# Altium footprint library Battery_PSU.PcbLib: 33 footprints (part 1 of 3)
Each footprint in its own frame and in the unit in brackets; x right, y up, seen from the top. Pads: shape width x height; smd on the part's side, far side on the other; paste and mask are expansions set on the pad; w line width, h text height; cw(c..) or ccw(c..) is an arc to the next point about the centre after c.
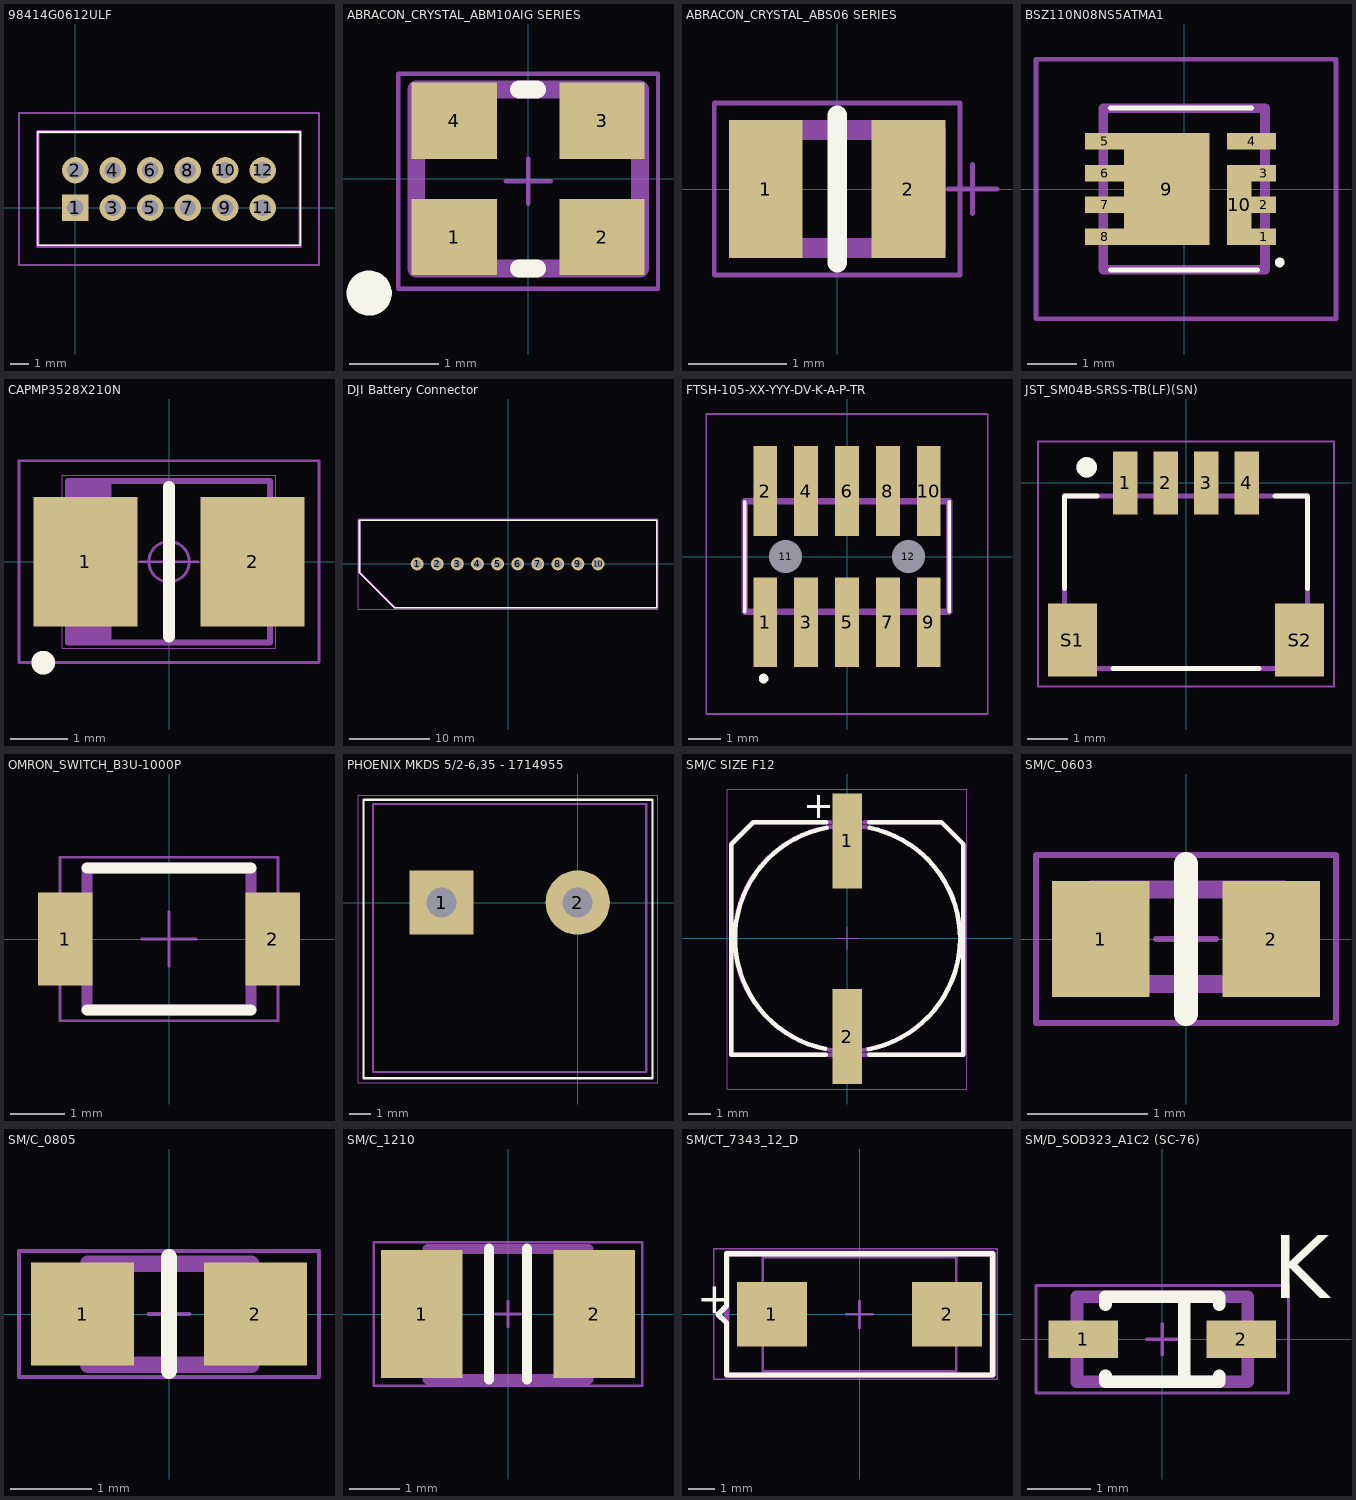
[diagram p0: the footprints below, top view; thin cyan lines are the x and y axes]

## 98414G0612ULF [mm]
pads (12):
  rect 1.4x1.4 hole 0.9: 1(0,0)
  round 1.4 hole 0.9: 2(0,2) 3(2,0) 4(2,2) 5(4,0) 6(4,2) 7(6,0) 8(6,2) 9(8,0) 10(8,2) 11(10,0) 12(10,2)
Top Overlay:
  lines w0.1: -2,-2 12,-2 12,4.05 -2,4.05 -2,-2
Mechanical 13:
  lines w0.2: -2,-2.05 12,-2.05 12,4.05 -2,4.05 -2,-2.05
Mechanical 15:
  lines w0.1: -3,-3.05 13,-3.05 13,5.05 -3,5.05 -3,-3.05
3D body "s98414-x06-12LF.stp": height 5.85, standoff -2.5, extent -2,-2.05 12,4.05

## ABRACON_CRYSTAL_ABM10AIG SERIES [mm] "32.768kHz SMD LOW PROFILE CRYSTAL Abracon Series ABM10AIG 2.5 x 2 x 0.55mm"
height 0.55
pads (4):
  rect 0.95x0.85 smd mask+0.102: 1(-0.825,-0.65) 2(0.825,-0.65) 3(0.825,0.65) 4(-0.825,0.65)
Top Overlay:
  circle w0.254: c-1.775,-1.275 r0.125
  lines w0.2: -0.1,-1 0.1,-1 ; -0.1,1 0.1,1
Mechanical 11:
  lines w0.2: -1.25,-1 -1.25,1 1.25,1 1.25,-1 -1.25,-1
  text ".designator" at -4.05,-0.5 h1
Mechanical 13:
  lines w0.2: -1.25,-1 1.25,-1 1.25,1 -1.25,1 -1.25,-1
Mechanical 15:
  lines w0.05: -0.25,-0.025 0.25,-0.025 ; 0,-0.275 0,0.225 ; -1.45,-1.225 1.45,-1.225 1.45,1.175 -1.45,1.175 -1.45,-1.225
3D body "(Abracon) ABM10.STEP": height 0.51, standoff 0, extent -1.244,-1.003 1.245,1.004

## ABRACON_CRYSTAL_ABS06 SERIES [mm] "32.768kHz SMD LOW PROFILE CRYSTAL Abracon Series ABS06 2 x 1.2 x 0.6mm"
height 0.6
pads (2):
  rect 0.75x1.4 smd: 1(-0.725,0) 2(0.725,0)
Top Overlay:
  lines w0.2: 0,-0.75 0,0.75
Mechanical 11:
  lines w0.2: -1,-0.6 1,-0.6 1,0.597 -1,0.597 -1,-0.6
  text ".designator" at -0.725,-0.4 h1
Mechanical 13:
  lines w0.2: -1,-0.6 -1,0.6 1,0.6 1,-0.6 -1,-0.6
Mechanical 15:
  lines w0.05: 1.125,0 1.625,0 ; 1.375,-0.25 1.375,0.25 ; -1.25,-0.875 -1.25,0.875 1.25,0.875 1.25,-0.875 -1.25,-0.875
3D body "Abracon Series ABS06.STEP": height 0.61, standoff 0, extent -1.003,-0.597 1.003,0.597

## BSZ110N08NS5ATMA1 [mm]
pads (10):
  rect 0.5x0.34 smd: 1(1.625,-0.975) 2(1.625,-0.325) 3(1.625,0.325)
  rect 1x0.34 smd: 4(1.375,0.975)
  rect 0.8x0.34 smd: 5(-1.625,0.975) 6(-1.625,0.325) 7(-1.625,-0.325) 8(-1.625,-0.975)
  rect 1.74x2.29 smd: 9(-0.355,0)
  rect 0.5x1.64 smd: 10(1.125,-0.325)
Top Overlay:
  lines w0.1: -1.5,-1.65 1.5,-1.65 ; -1.5,1.65 1.375,1.65 ; 1.9,-1.5 cw(c1.95,-1.5) 2,-1.5 cw(c1.95,-1.5) 1.9,-1.5
Mechanical 13:
  lines w0.2: -1.65,-1.65 1.65,-1.65 1.65,1.65 -1.65,1.65 -1.65,-1.65
Mechanical 15:
  lines w0.1: -3.025,-2.65 3.1,-2.65 3.1,2.65 -3.025,2.65 -3.025,-2.65
3D body "BSZ110N08NS5ATMA1.stp": height 1.2, standoff 0, extent -1.991,-1.65 1.841,1.65

## CAPMP3528X210N [mm]
height 1.9
pads (2):
  rect 1.8x2.25 smd: 1(-1.45,0) 2(1.45,0)
Top Overlay:
  circle w0.25: c-2.18,-1.75 r0.08
  lines w0.2: 0,-1.3 0,1.3
Mechanical 11:
  lines w0.1: -1.65,-1.4 -1.65,1.4 ; -1.55,-1.4 -1.55,1.4 ; -1.45,-1.4 -1.45,1.4 ; -1.35,-1.4 -1.35,1.4 ; -1.25,-1.4 -1.25,1.4 ; -1.15,-1.4 -1.15,1.4 ; -1.05,-1.4 -1.05,1.4 ; -1.75,-1.4 -1.75,1.4 ; -1.75,-1.4 -1.75,1.4 ; -1.75,-1.4 1.75,-1.4 1.75,1.4 -1.75,1.4
Mechanical 13:
  lines w0.001: -1.85,-1.5 -1.85,1.5 1.85,1.5 1.85,-1.5 -1.85,-1.5
Mechanical 15:
  circle w0.05: c0,0 r0.35
  lines w0.05: -0.5,0 0.5,0 ; 0,-0.5 0,0.5 ; -2.6,-1.75 -2.6,1.75 2.6,1.75 2.6,-1.75 -2.6,-1.75
3D body: height 1.9, standoff 0, extent -0.991,-1.5 1.85,1.5
3D body: height 1.9, standoff 0, extent -1.85,-1.5 -0.991,1.5

## DJI Battery Connector [mm]
pads (10):
  round 1.6 hole 1 mask+0.1: 1(-11.3,0) 2(-8.8,0) 3(-6.3,0) 4(-3.8,0) 5(-1.3,0) 6(1.2,0) 7(3.7,0) 8(6.2,0) 9(8.7,0) 10(11.2,0)
Top Overlay:
  lines w0.2: 18.45,-5.45 -14.1,-5.45 -18.465,-1.085 -18.465,5.425 18.475,5.425 18.475,-5.45
Mechanical 11:
  lines w0.2: -18.475,-1.125 -14.15,-5.45 18.475,-5.45 18.475,5.425 -18.475,5.425 -18.475,-1.125
  text ".designator" at 0.375,-10.4 h1
Mechanical 13:
  lines w0.2: 18.45,-5.45 -14,-5.45 -18.47,-0.98 -18.47,5.425 18.475,5.425 18.475,-5.45
Mechanical 15:
  lines w0.05: -18.65,-5.65 -18.65,5.625 18.65,5.626 18.65,-5.65 -18.65,-5.65

## FTSH-105-XX-YYY-DV-K-A-P-TR [mm]
pads (12):
  rect 0.74x2.79 smd: 1(-2.54,-2.035) 2(-2.54,2.035) 3(-1.27,-2.035) 4(-1.27,2.035) 5(0,-2.035) 6(0,2.035) 7(1.27,-2.035) 8(1.27,2.035) 9(2.54,-2.035) 10(2.54,2.035)
  round 0.51 hole 1.02 unplated: 11(-1.905,0) 12(1.905,0)
Top Overlay:
  circle w0.2: c-2.59,-3.785 r0.05
  lines w0.1: -3.175,-1.715 -3.175,1.715 ; 3.175,-1.715 3.175,1.715
Mechanical 13:
  lines w0.2: -3.175,-1.715 3.175,-1.715 3.175,1.715 -3.175,1.715 -3.175,-1.715
Mechanical 15:
  lines w0.05: -4.375,-4.885 4.375,-4.885 4.375,4.43 -4.375,4.43 -4.375,-4.885
3D body "FTSH-105-01-L-DV-K-A-P-TR.stp": height 6.98, standoff -0.87, extent -3.175,-2.921 3.175,4.445

## JST_SM04B-SRSS-TB(LF)(SN) [mm]
pads (6):
  rect 0.6x1.55 smd: 1(-1.5,0) 2(-0.5,0) 3(0.5,0) 4(1.5,0)
  rect 1.2x1.8 smd: S1(-2.8,-3.875) S2(2.8,-3.875)
Top Overlay:
  circle w0.3: c-2.45,0.385 r0.1
  lines w0.127: -3,-2.6 -3,-0.325 -2.2,-0.325 ; -1.8,-4.575 1.8,-4.575 ; 2.2,-0.325 3,-0.325 3,-2.6
Mechanical 13:
  circle w0.3: c-2.45,0.385 r0.1
  lines w0.127: -3,-4.575 3,-4.575 3,-0.325 -3,-0.325 -3,-4.575
Mechanical 15:
  lines w0.05: -3.65,-5.025 3.65,-5.025 3.65,1.025 -3.65,1.025 -3.65,-5.025

## OMRON_SWITCH_B3U-1000P [mm] "Ultra-small Tactile Switch - Omron"
height 11.5
pads (2):
  rect 1x1.7 smd: 1(-1.9,0) 2(1.9,0)
Top Overlay:
  lines w0.2: -1.5,-1.3 1.5,-1.3 ; -1.5,1.3 1.5,1.3
Mechanical 11:
  lines w0.2: -1.5,-1.3 1.5,-1.3 1.5,1.3 -1.5,1.3 -1.5,-1.3
  text ".designator" at -1.6,-0.4 h1
Mechanical 13:
  lines w0.2: -1.5,-1.3 -1.5,1.3 1.5,1.3 1.5,-1.3 -1.5,-1.3
Mechanical 15:
  lines w0.05: -0.5,0 0.5,0 ; 0,-0.5 0,0.5 ; -2,-1.5 -2,1.5 2,1.5 2,-1.5 -2,-1.5
3D body "Omron BSU-1000P.stp": height 1.6, standoff 0, extent -2,-1.263 2,1.237

## PHOENIX MKDS 5/2-6,35 - 1714955 [mm]
height 0.025
pads (2):
  rect 3x3 hole 1.4: 1(-6.35,0)
  round 3 hole 1.4: 2(0,0)
Top Overlay:
  lines w0.1: -10,-8.2 -10,4.8 3.5,4.8 3.5,-8.2 -10,-8.2
Mechanical 13:
  lines w0.1: -9.55,-7.9 3.2,-7.9 3.2,4.6 -9.55,4.6 -9.55,-7.9
Mechanical 15:
  lines w0.05: -10.25,-8.4 -10.25,5 3.75,5 3.75,-8.4 -10.25,-8.4
3D body "1714955.stp": height 21.5, standoff -5, extent -10.11,-7.9 3.16,4.6

## SM/C SIZE F12 [mm] "Aluminium Electrolytic capacitor - serie F12 Sanyo"
height 12.6
pads (2):
  rect 1.3x4.2 smd: 1(0,4.32) 2(0,-4.35)
Top Overlay:
  lines w0.2: -0.975,-4.899 cw(c0.025,0) -0.921,4.91 ; -0.95,-5.15 -5.15,-5.15 -5.15,4.175 -4.175,5.15 -0.925,5.15 ; 0.946,-4.91 ccw(c0,0) 1,4.899 ; 0.975,-5.15 5.15,-5.15 5.15,4.175 4.175,5.15 0.975,5.15
  text "+" at -1.95,5.325 h1.2
Mechanical 11:
  circle w0.2: c0,0 r5
  lines w0.2: -0.75,5.15 -4.175,5.15 -5.15,4.175 -5.15,-5.15 5.15,-5.15 5.15,4.175 4.175,5.15 0.75,5.15
  text ".designator" at -4.3,-0.3 h1
Mechanical 13:
  circle w0.2: c0,0 r5
  lines w0.2: -0.75,5.15 -4.175,5.15 -5.15,4.175 -5.15,-5.15 5.15,-5.15 5.15,4.175 4.175,5.15 0.75,5.15
Mechanical 15:
  lines w0.05: -0.5,0 0.5,0 ; 0,-0.5 0,0.5 ; -5.325,-6.675 5.3,-6.675 5.3,6.625 -5.325,6.625 -5.325,-6.675
3D body "D10xh13.5.stp": height 13.8, standoff 0, extent -5.15,-5.45 5.15,5.45

## SM/C_0603 [mil]
pads (2):
  rect 32x38 smd: 1(-28,0) 2(28,0)
Top Overlay:
  lines w7.87: 0,-24.61 0,24.61
Mechanical 11:
  lines w5.91: -30.95,-14.76 32.05,-14.76 32.05,16.24 -30.95,16.24 -30.95,-14.76
  text ".designator" at -102.36,36.42 h39.37
Mechanical 13:
  lines w5.91: -30.95,-14.76 -30.95,16.24 32.05,16.24 32.05,-14.76 -30.95,-14.76
Mechanical 15:
  lines w1.97: 0,0 0,9.84 0,0 ; 0,0 -9.84,0 0,0 ; 0,0 9.84,0 0,0 ; 0,0 0,-9.84 0,0 ; -49.21,-27.56 49.21,-27.56 49.21,27.56 -49.21,27.56 -49.21,-27.56
3D body "User Library-cap_0603-1.STEP": height 31.5, standoff 0, extent -31.49,-15.74 31.5,15.75

## SM/C_0805 [mil]
pads (2):
  rect 50x50 smd: 1(-42,0) 2(42,0)
Top Overlay:
  lines w7.87: 0,-27.56 0,27.56
Mechanical 11:
  lines w7.87: -39.37,-24.59 -39.37,24.4 39.89,24.4 39.89,-24.59 -39.37,-24.59
  text ".designator" at -101.38,37.4 h39.37
Mechanical 13:
  lines w7.87: -39.37,-24.59 39.89,-24.59 39.89,24.4 -39.37,24.4 -39.37,-24.59
Mechanical 15:
  lines w1.97: 0,0 0,9.84 0,0 ; 0,0 -9.84,0 0,0 ; 0,0 9.84,0 0,0 ; 0,0 0,-9.84 0,0 ; -72.83,-30.51 -72.83,30.51 72.83,30.51 72.83,-30.51 -72.83,-30.51
3D body "User Library-cap_0805-1.step": height 47.24, standoff 0, extent -39.36,-23.62 39.38,23.63

## SM/C_1210 [mil]
height 452.76
pads (2):
  rect 64x100 smd: 1(-67.5,0) 2(67.5,0)
Top Overlay:
  lines w7.87: -14.76,-51.18 -14.76,51.18 ; 14.76,-51.18 14.76,51.18
Mechanical 11:
  lines w7.87: -62.99,-51.11 -62.99,50.89 62.99,50.89 62.99,-51.11 -62.99,-51.11
  text ".designator" at -110.24,65.94 h39.37
Mechanical 13:
  lines w7.87: -62.99,-51.11 62.99,-51.11 62.99,50.89 -62.99,50.89 -62.99,-51.11
Mechanical 15:
  lines w1.97: 0,0 0,9.84 0,0 ; 0,0 -9.84,0 0,0 ; 0,0 9.84,0 0,0 ; 0,0 0,-9.84 0,0 ; -105.31,-56.1 -105.31,56.1 105.31,56.1 105.31,-56.1 -105.31,-56.1
3D body "User Library-cap_1210.STEP": height -14.57, standoff -113, extent -62.99,-49.21 63,49.22

## SM/CT_7343_12_D [mil]
pads (2):
  rect 104x96 smd: 1(-130,0) 2(130,0)
Top Overlay:
  lines w7.87: -210,0 -197.5,12.5 -197.5,90 197.5,90 197.5,-90 -197.5,-90 -197.5,-12.5 -210,0
  text "+" at -241.14,1.97 h45
Mechanical 11:
  lines w7.87: -196.85,-90.55 196.85,-90.55 196.85,90.55 -196.85,90.55 -196.85,-90.55
  text ".designator" at -110.24,-11.81 h39.37
Mechanical 13:
  lines w3.94: -143.58,-84.64 -143.58,84.65 143.59,84.65 143.59,-84.64 -143.58,-84.64
  lines w7.87: -210,0 -197.5,12.5 ; -210,0 -197.5,-12.5 ; -210,0 -197.5,-12.5 ; -210,0 -197.5,12.5 ; -197.5,-90 -197.5,-12.5 ; -197.5,-90 197.5,-90 ; -197.5,-90 197.5,-90 ; -197.5,-90 -197.5,-12.5 ; -197.5,12.5 -197.5,90 ; -197.5,12.5 -197.5,90 ; -197.5,90 197.5,90 ; -197.5,90 197.5,90 ; 197.5,-90 197.5,90 ; 197.5,-90 197.5,90
  text "+" at -241.14,1.97 h45
Mechanical 15:
  lines w1.97: -216,-96 -216,97 204,97 204,-96 -216,-96
  lines w3.94: -19.68,0 19.68,0 ; 0,-19.68 0,19.68
3D body "SW3dPS-cap_d.STEP": height 110.63, standoff 0, extent -143.58,-84.64 143.59,84.65

## SM/D_SOD323_A1C2 (SC-76) [mm] "SOD-323; 2 Leads; Body 1.8x 1.4 mm, (LxW)"
height 1.15
pads (2):
  rect 1.1x0.599 smd: 1(-1.25,0) 2(1.25,0)
Top Overlay:
  lines w0.2: -0.9,-0.575 -0.9,-0.675 0.9,-0.675 0.9,-0.575 ; -0.9,0.55 -0.9,0.675 0.9,0.675 0.9,0.55 ; 0.35,-0.675 0.35,0.675
  text "K" at 1.75,0.65 h1
Mechanical 11:
  lines w0.2: -1.35,-0.675 -1.35,0.675 1.35,0.675 1.35,-0.675 -1.35,-0.675
  text ".designator" at -2.6,1 h1
Mechanical 13:
  lines w0.2: -1.35,-0.675 1.35,-0.675 1.35,0.675 -1.35,0.675 -1.35,-0.675
  text "K" at 1.75,0.65 h1
Mechanical 15:
  lines w0.05: -0.25,0 0.25,0 ; 0,-0.25 0,0.25 ; -2,-0.85 2,-0.85 2,0.85 -2,0.85 -2,-0.85
3D body "User Library-SOD-323F.STEP": height 0.79, standoff -0.08, extent -1.35,-0.675 1.35,0.675